# Altium footprint library SAMTEC_TW-03-12-L-S-765-200.PcbLib: 1 footprints
Each footprint in its own frame and in the unit in brackets; x right, y up, seen from the top. Pads: shape width x height; smd on the part's side, far side on the other; paste and mask are expansions set on the pad; w line width, h text height; cw(c..) or ccw(c..) is an arc to the next point about the centre after c.
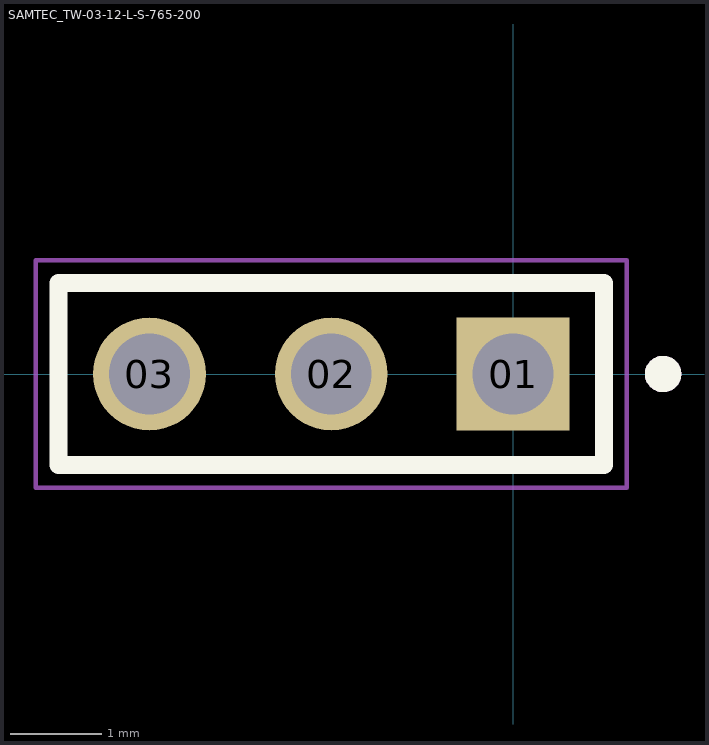
[diagram p0: the footprint, top view; thin cyan lines are the x and y axes]

## SAMTEC_TW-03-12-L-S-765-200 [mm]
pads (3):
  rect 1.24x1.24 hole 0.89: 01(0,0)
  round 1.24 hole 0.89: 02(-2,0) 03(-4,0)
Top Overlay:
  circle w0.2: c1.65,0 r0.1
  lines w0.2: -5,-1 1,-1 1,1 -5,1 -5,-1
Mechanical 13:
  circle w0.2: c1.65,0 r0.1
  lines w0.1: -5,-1 -5,1 ; -5,-1 1,-1 ; -5,-1 -5,1 ; -5,1 1,1 ; -5,1 1,1 ; 1,-1 1,1 ; 1,-1 1,1
Mechanical 15:
  lines w0.05: -5.25,-1.25 1.25,-1.25 1.25,1.25 -5.25,1.25 -5.25,-1.25
3D body "TW-03-12-L-S-765-200.stp": height 5.08, standoff -23.11, extent -5.032,-1.016 0.968,0.983